# Altium schematic symbol library switches.SchLib: 1 symbol
Pins are listed as number, name and electrical type; pins without a type are passive.

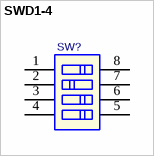
[diagram p0: symbol SWD1-4]

## SWD1-4
designator SW?  (value not drawn)
Value: SWD1-4
footprint DIP-SW-4 (SWD1-4; 8 Leads; 4-switches)
pins: 1, 2, 3, 4, 5, 6, 7, 8